# EAGLE library part LT1009 (library linear-technology)
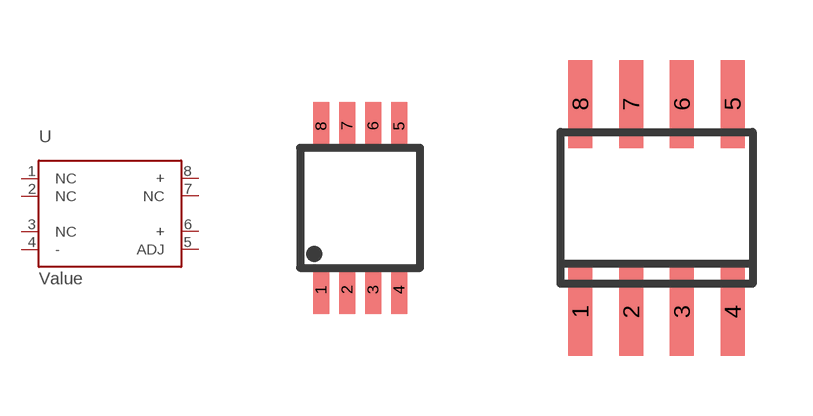
[diagram p27: symbol with the pads of MSOP8; footprints MSOP8, SOIC8]

Designator prefix -

## LT1009  [MSOP8]
1  NC
2  NC
3  NC
4  -
5  ADJ
6  +
7  NC
8  +

## LT10098SOIC  [SOIC8]
Pads as for MSOP8

## Footprint MSOP8 (pad centres in mm)
MSOP8
smd 0.4 x 1.2: 1 -0.975,-2.05; 2 -0.325,-2.05; 3 0.325,-2.05; 4 0.975,-2.05; 5 0.975,2.05; 6 0.325,2.05; 7 -0.325,2.05; 8 -0.975,2.05

## Footprint SOIC8 (pad centres in mm)
Small Outline IC
smd 0.6 x 2.2: 1 -1.905,-2.6; 2 -0.635,-2.6; 3 0.635,-2.6; 4 1.905,-2.6; 5 1.905,2.6; 6 0.635,2.6; 7 -0.635,2.6; 8 -1.905,2.6